# Altium schematic symbol library ADR02BUJZ-REEL7.SchLib: 1 symbol
Pins are listed as number, name and electrical type; pins without a type are passive.

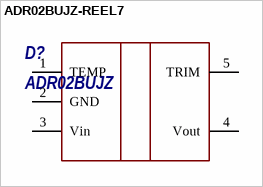
[diagram p0: symbol ADR02BUJZ-REEL7]

## ADR02BUJZ-REEL7
designator D?, comment ADR02BUJZ
pins: 1 TEMP, 2 GND, 3 Vin, 4 Vout, 5 TRIM